# Altium footprint library Fairchild Semiconductor Footprints.PcbLib: 86 footprints (part 6 of 6)
Each footprint in its own frame and in the unit in brackets; x right, y up, seen from the top. Pads: shape width x height; smd on the part's side, far side on the other; paste and mask are expansions set on the pad; w line width, h text height; cw(c..) or ccw(c..) is an arc to the next point about the centre after c.
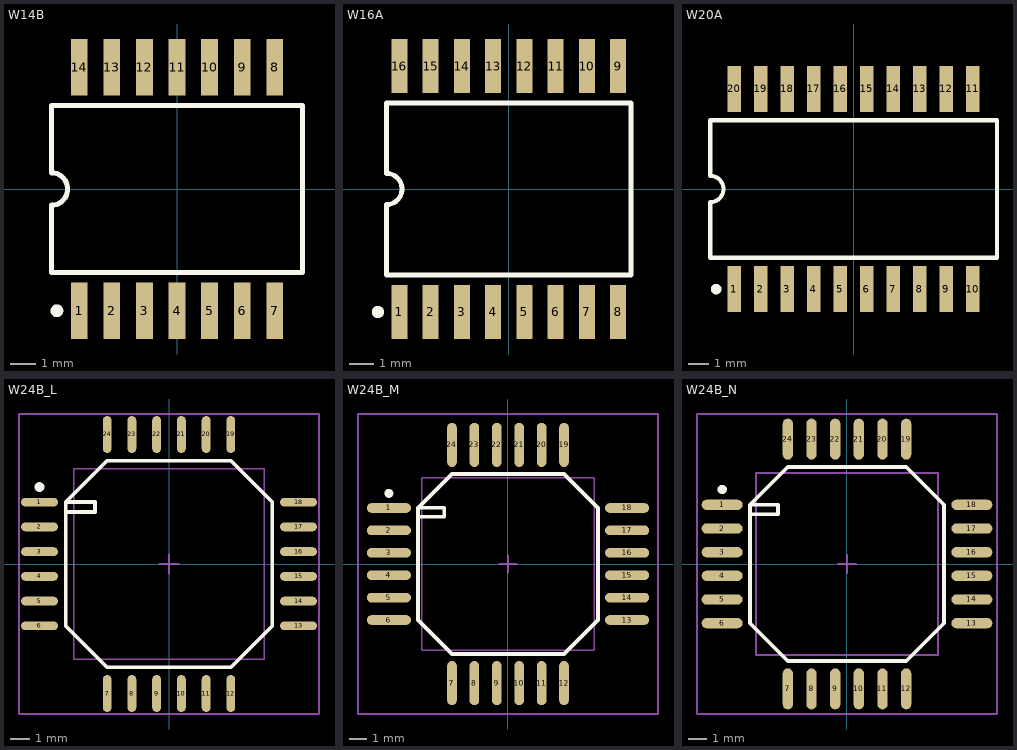
[diagram p5: the footprints below, top view; thin cyan lines are the x and y axes]

## W14B [mm] "DFP; 14 Leads; Body 9.8 x 7.1 mm (LxW max); Pitch 1.27 mm"
height 2.03
pads (14):
  rect 0.65x2.2 smd: 1(-3.81,-4.75) 2(-2.54,-4.75) 3(-1.27,-4.75) 4(0,-4.75) 5(1.27,-4.75) 6(2.54,-4.75) 7(3.81,-4.75) 8(3.81,4.75) 9(2.54,4.75) 10(1.27,4.75) 11(0,4.75) 12(-1.27,4.75) 13(-2.54,4.75) 14(-3.81,4.75)
Top Overlay:
  circle w0.25: c-4.685,-4.75 r0.125
  lines w0.2: -4.9,-3.25 4.9,-3.25 4.9,3.25 -4.9,3.25 -4.9,0.635 cw(c-4.9,0) -4.9,-0.635 -4.9,-3.25

## W16A [mm] "DFP; 16 Leads; Body 9.9 x 7.6 mm (LxW max); Pitch 1.27 mm"
height 2.04
pads (16):
  rect 0.65x2.2 smd: 1(-4.445,-5) 2(-3.175,-5) 3(-1.905,-5) 4(-0.635,-5) 5(0.635,-5) 6(1.905,-5) 7(3.175,-5) 8(4.445,-5) 9(4.445,5) 10(3.175,5) 11(1.905,5) 12(0.635,5) 13(-0.635,5) 14(-1.905,5) 15(-3.175,5) 16(-4.445,5)
Top Overlay:
  circle w0.25: c-5.32,-5 r0.125
  lines w0.2: -4.975,-3.5 -4.975,-0.635 ccw(c-4.975,0) -4.975,0.635 -4.975,3.5 4.975,3.5 4.975,-3.5 -4.975,-3.5

## W20A [mm] "DFP; 20 Leads; Body 13.7 x 7.2 mm (LxW max); Pitch 1.27 mm"
height 2.29
pads (20):
  rect 0.65x2.2 smd: 1(-5.715,-4.8) 2(-4.445,-4.8) 3(-3.175,-4.8) 4(-1.905,-4.8) 5(-0.635,-4.8) 6(0.635,-4.8) 7(1.905,-4.8) 8(3.175,-4.8) 9(4.445,-4.8) 10(5.715,-4.8) 11(5.715,4.8) 12(4.445,4.8) 13(3.175,4.8) 14(1.905,4.8) 15(0.635,4.8) 16(-0.635,4.8) 17(-1.905,4.8) 18(-3.175,4.8) 19(-4.445,4.8) 20(-5.715,4.8)
Top Overlay:
  circle w0.25: c-6.59,-4.8 r0.125
  lines w0.2: -6.875,-3.3 6.875,-3.3 6.875,3.3 -6.875,3.3 -6.875,0.635 cw(c-6.875,0) -6.875,-0.635 -6.875,-3.3

## W24B_L [mm] "100-Pin Ceramic Quad Flat Pack 1.27 mm Pitch, IPC High Density"
height 2.2
pads (24):
  oval 1.9x0.45 smd: 1(-6.65,3.175) 2(-6.65,1.905) 3(-6.65,0.635) 4(-6.65,-0.635) 5(-6.65,-1.905) 6(-6.65,-3.175) 13(6.65,-3.175) 14(6.65,-1.905) 15(6.65,-0.635) 16(6.65,0.635) 17(6.65,1.905) 18(6.65,3.175)
  oval 0.45x1.9 smd: 7(-3.175,-6.65) 8(-1.905,-6.65) 9(-0.635,-6.65) 10(0.635,-6.65) 11(1.905,-6.65) 12(3.175,-6.65) 19(3.175,6.65) 20(1.905,6.65) 21(0.635,6.65) 22(-0.635,6.65) 23(-1.905,6.65) 24(-3.175,6.65)
Top Overlay:
  circle w0.25: c-6.65,3.95 r0.125
  lines w0.2: -5.3,2.675 -3.8,2.675 -3.8,3.175 -5.3,3.175 ; -5.3,3.175 -5.3,-3.175 -3.175,-5.3 3.175,-5.3 5.3,-3.175 5.3,3.175 3.175,5.3 -3.175,5.3 -5.3,3.175
Mechanical 13:
  lines w0.1: -4.89,-4.89 -4.89,4.89 4.89,4.89 4.89,-4.89 -4.89,-4.89
Mechanical 15:
  lines w0.1: -0.5,0 0.5,0 ; 0,-0.5 0,0.5 ; -7.7,-7.7 -7.7,7.7 7.7,7.7 7.7,-7.7 -7.7,-7.7
3D body: height 2.2, standoff 0, extent -4.89,-4.89 4.89,4.89

## W24B_M [mm] "100-Pin Ceramic Quad Flat Pack 1.27 mm Pitch, IPC Low Density"
height 2.2
pads (24):
  oval 2.5x0.55 smd: 1(-6.75,3.175) 2(-6.75,1.905) 3(-6.75,0.635) 4(-6.75,-0.635) 5(-6.75,-1.905) 6(-6.75,-3.175) 13(6.75,-3.175) 14(6.75,-1.905) 15(6.75,-0.635) 16(6.75,0.635) 17(6.75,1.905) 18(6.75,3.175)
  oval 0.55x2.5 smd: 7(-3.175,-6.75) 8(-1.905,-6.75) 9(-0.635,-6.75) 10(0.635,-6.75) 11(1.905,-6.75) 12(3.175,-6.75) 19(3.175,6.75) 20(1.905,6.75) 21(0.635,6.75) 22(-0.635,6.75) 23(-1.905,6.75) 24(-3.175,6.75)
Top Overlay:
  circle w0.25: c-6.75,4 r0.125
  lines w0.2: -5.1,2.675 -3.6,2.675 -3.6,3.175 -5.1,3.175 ; -5.1,3.175 -3.175,5.1 3.175,5.1 5.1,3.175 5.1,-3.175 3.175,-5.1 -3.175,-5.1 -5.1,-3.175 -5.1,3.175
Mechanical 13:
  lines w0.1: -4.89,-4.89 4.89,-4.89 4.89,4.89 -4.89,4.89 -4.89,-4.89
Mechanical 15:
  lines w0.1: -0.5,0 0.5,0 ; 0,-0.5 0,0.5 ; -8.5,-8.5 8.5,-8.5 8.5,8.5 -8.5,8.5 -8.5,-8.5
3D body: height 2.2, standoff 0, extent -4.89,-4.89 4.89,4.89

## W24B_N [mm] "100-Pin Ceramic Quad Flat Pack 1.27 mm Pitch, IPC Medium Density"
height 2.2
pads (24):
  oval 2.2x0.55 smd: 1(-6.7,3.175) 2(-6.7,1.905) 3(-6.7,0.635) 4(-6.7,-0.635) 5(-6.7,-1.905) 6(-6.7,-3.175) 13(6.7,-3.175) 14(6.7,-1.905) 15(6.7,-0.635) 16(6.7,0.635) 17(6.7,1.905) 18(6.7,3.175)
  oval 0.55x2.2 smd: 7(-3.175,-6.7) 8(-1.905,-6.7) 9(-0.635,-6.7) 10(0.635,-6.7) 11(1.905,-6.7) 12(3.175,-6.7) 19(3.175,6.7) 20(1.905,6.7) 21(0.635,6.7) 22(-0.635,6.7) 23(-1.905,6.7) 24(-3.175,6.7)
Top Overlay:
  circle w0.25: c-6.7,4 r0.125
  lines w0.2: -5.2,2.675 -3.7,2.675 -3.7,3.175 -5.2,3.175 ; -5.2,3.175 -5.2,-3.175 -3.175,-5.2 3.175,-5.2 5.2,-3.175 5.2,3.175 3.175,5.2 -3.175,5.2 -5.2,3.175
Mechanical 13:
  lines w0.1: -4.89,-4.89 -4.89,4.89 4.89,4.89 4.89,-4.89 -4.89,-4.89
Mechanical 15:
  lines w0.1: -0.5,0 0.5,0 ; 0,-0.5 0,0.5 ; -8.05,-8.05 -8.05,8.05 8.05,8.05 8.05,-8.05 -8.05,-8.05
3D body: height 2.2, standoff 0, extent -4.89,-4.89 4.89,4.89